# Altium schematic symbol library SCH - INTERFACE - CAN - MICROCHIP MCP2542FD.SCHLIB: 1 symbol
Pins are listed as number, name and electrical type; pins without a type are passive.

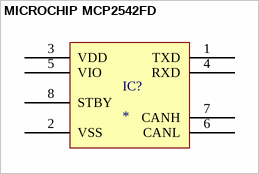
[diagram p0: symbol MICROCHIP MCP2542FD]

## MICROCHIP MCP2542FD
designator IC?
pins: 1 TXD, 2 VSS, 3 VDD, 4 RXD, 5 VIO, 6 CANL, 7 CANH, 8 STBY